# Altium footprint library PCB - LEADED - XYSEMI CPC5.PcbLib: 1 footprints
Each footprint in its own frame and in the unit in brackets; x right, y up, seen from the top. Pads: shape width x height; smd on the part's side, far side on the other; paste and mask are expansions set on the pad; w line width, h text height; cw(c..) or ccw(c..) is an arc to the next point about the centre after c.
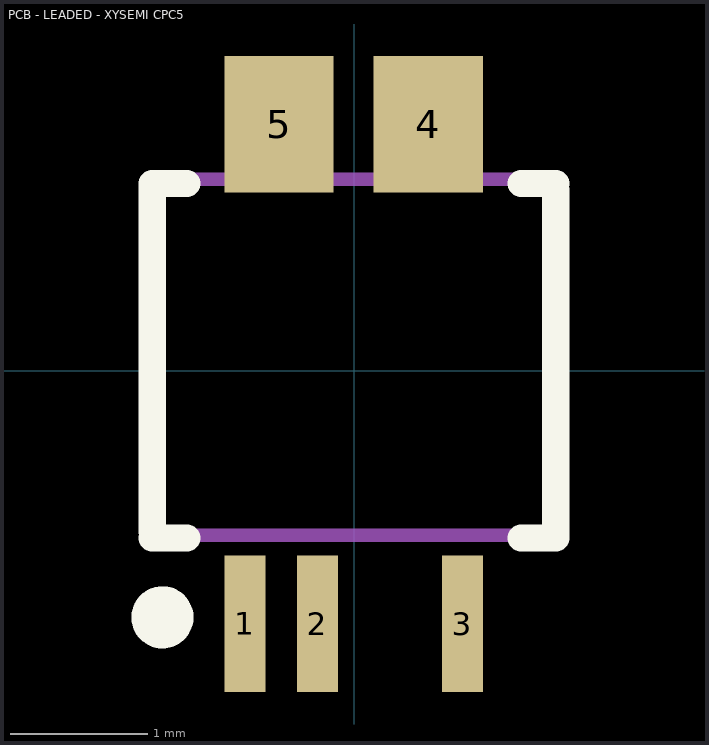
[diagram p0: the footprint, top view; thin cyan lines are the x and y axes]

## PCB - LEADED - XYSEMI CPC5 [mm] "POD-CPC5"
height 0.85
pads (5):
  rect 0.3x1 smd: 1(-0.798,-1.847) 2(-0.268,-1.847) 3(0.792,-1.847)
  rect 0.8x1 smd: 4(0.542,1.803) 5(-0.548,1.803)
Top Overlay:
  circle w0.254: c-1.4,-1.8 r0.1
  lines w0.2: -1.475,-1.22 -1.221,-1.22 ; -1.475,-1.17 -1.475,1.37 -1.221,1.37 ; 1.221,-1.22 1.475,-1.22 1.475,1.32 ; 1.221,1.37 1.475,1.37
Top Courtyard:
  lines w0.1: -1.5,-1.2 -1.5,1.4 1.5,1.4 1.5,-1.2 -1.5,-1.2
3D body "User Library-XB7608AF.step": height 1.05, standoff -0.04, extent -1.35,-2.006 1.35,2.156